# EAGLE library part MA08-2 (library we-con)
Pin Header
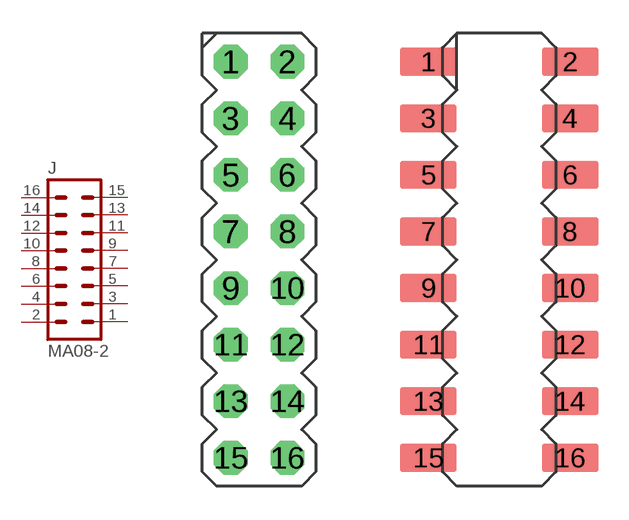
[diagram p9: symbol with the pads of MA08-2; footprints MA08-2, MA08-2_SMD]

Designator prefix J

## MA08-2  [MA08-2]
1  1  pas
2  2  pas
3  3  pas
4  4  pas
5  5  pas
6  6  pas
7  7  pas
8  8  pas
9  9  pas
10  10  pas
11  11  pas
12  12  pas
13  13  pas
14  14  pas
15  15  pas
16  16  pas

## MA08-2S  [MA08-2_SMD]
Pads as for MA08-2

## Footprint MA08-2 (pad centres in mm)
drill 1 octagon: 1 -1.27,8.89; 2 1.27,8.89; 3 -1.27,6.35; 4 1.27,6.35; 5 -1.27,3.81; 6 1.27,3.81; 7 -1.27,1.27; 8 1.27,1.27; 9 -1.27,-1.27; 10 1.27,-1.27; 11 -1.27,-3.81; 12 1.27,-3.81; 13 -1.27,-6.35; 14 1.27,-6.35; 15 -1.27,-8.89; 16 1.27,-8.89

## Footprint MA08-2_SMD (pad centres in mm)
smd 2.54 x 1.27: 1 -3.175,8.89; 2 3.175,8.89; 3 -3.175,6.35; 4 3.175,6.35; 5 -3.175,3.81; 6 3.175,3.81; 7 -3.175,1.27; 8 3.175,1.27; 9 -3.175,-1.27; 10 3.175,-1.27; 11 -3.175,-3.81; 12 3.175,-3.81; 13 -3.175,-6.35; 14 3.175,-6.35; 15 -3.175,-8.89; 16 3.175,-8.89